# EAGLE library part 12AX7 (library 12ax7)
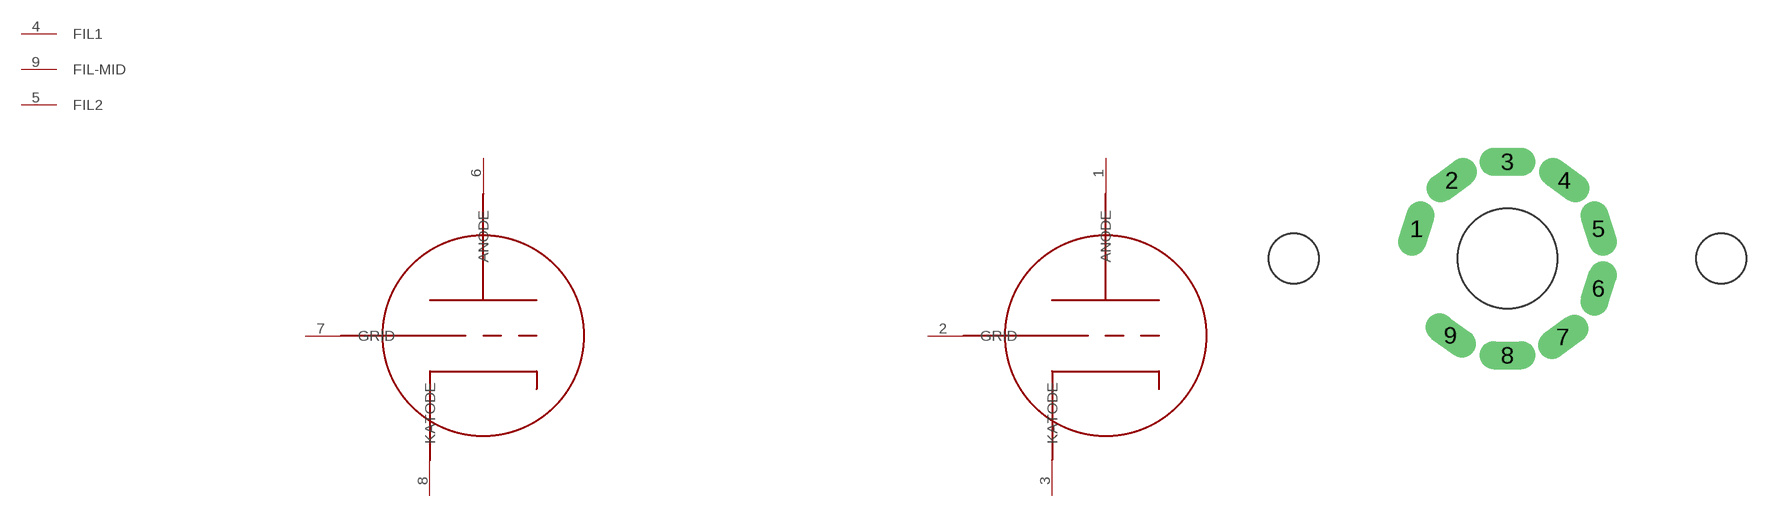
[diagram p0: symbol with the pads of 12AX7; footprint 12AX7]

Designator prefix -; gates G$1=12AX7 G$2=12AX7 G$3=FILAMENT

## 12AX7  [12AX7]
1  G$2:ANODE
2  G$2:GRID
3  G$2:KATODE
4  G$3:FIL1
5  G$3:FIL2
6  G$1:ANODE
7  G$1:GRID
8  G$1:KATODE
9  G$3:FIL-MID

## Footprint 12AX7 (pad centres in mm)
drill 1.3 long: 1 -6.4,2.1; 2 -3.9,5.5; 3 0,6.8; 4 4,5.5; 5 6.4,2.1; 6 6.4,-2.1; 7 3.9,-5.5; 8 0,-6.8; 9 -4,-5.4